# Altium footprint library Футпринты.PcbLib: 27 footprints (part 2 of 2)
Each footprint in its own frame and in the unit in brackets; x right, y up, seen from the top. Pads: shape width x height; smd on the part's side, far side on the other; paste and mask are expansions set on the pad; w line width, h text height; cw(c..) or ccw(c..) is an arc to the next point about the centre after c.
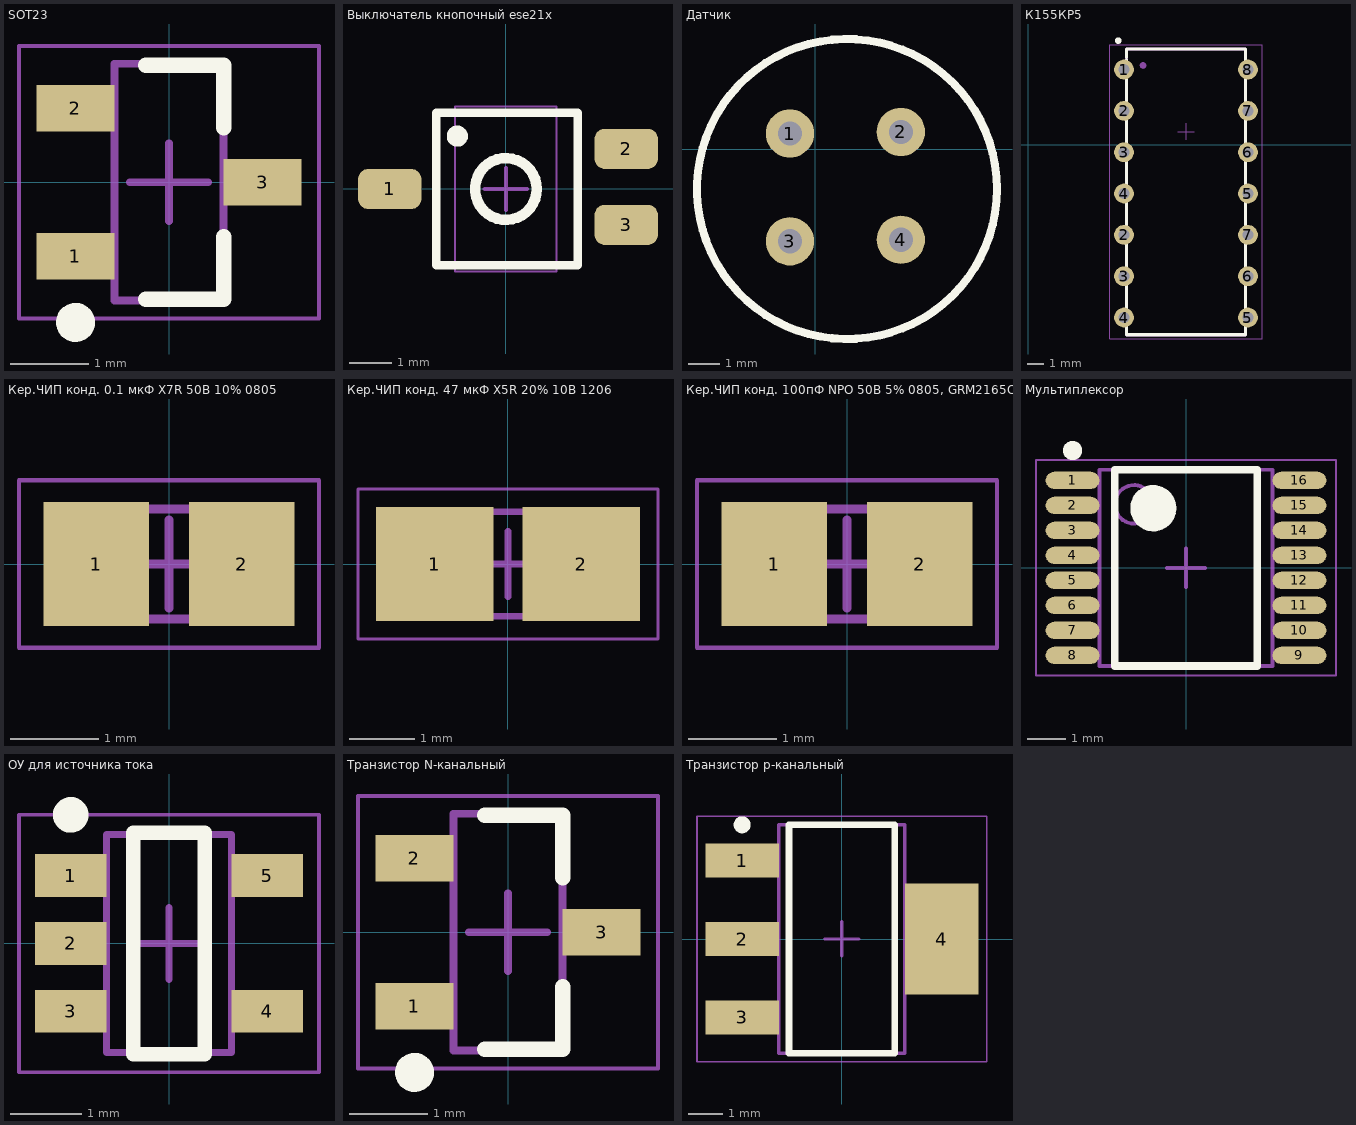
[diagram p1: the footprints below, top view; thin cyan lines are the x and y axes]

## SOT23 [mm] "SOT23, 3-Leads, Body 2,92x2,45mm, Pitch 0,95mm, IPC Medium Density"
height 1.12
pads (3):
  rect 1x0.6 smd: 1(-1.2,-0.95) 2(-1.2,0.95) 3(1.2,0)
Top Overlay:
  circle w0.25: c-1.2,-1.8 r0.125
  lines w0.2: -0.3,-1.5 0.7,-1.5 0.7,-0.7 ; -0.3,1.5 0.7,1.5 0.7,0.7
Mechanical 13:
  lines w0.1: -0.7,-1.52 0.7,-1.52 0.7,1.52 -0.7,1.52 -0.7,-1.52
Mechanical 15:
  lines w0.05: -1.925,-1.75 1.925,-1.75 1.925,1.75 -1.925,1.75 -1.925,-1.75
  lines w0.1: -0.5,0 0.5,0 ; 0,-0.5 0,0.5
3D body "SOT95P245X112-3N.step": height 1.12, standoff 0, extent -1.3,-1.52 1.3,1.52

## Выключатель кнопочный ese21x [mm] "SOTFL, 3-Leads, Body 3,62x1,60mm, Pitch 1,50mm, IPC Medium Density"
height 0.73
pads (3):
  rrect50% 1.5x0.95 smd: 1(-2.75,0) 2(2.85,0.95) 3(2.85,-0.85)
Top Overlay:
  circle w0.25: c-1.15,1.25 r0.125
  circle w0.25: c0,0 r0.73
  lines w0.2: 1.7,1.75 1.7,-1.8 -1.65,-1.8 -1.65,1.8 1.7,1.8
Mechanical 15:
  lines w0.05: -1.2,-1.95 -1.2,1.95 1.2,1.95 1.2,-1.95 -1.2,-1.95
  lines w0.1: -0.5,0 0.5,0 ; 0,-0.5 0,0.5

## Датчик [mil]
pads (4):
  round 60 hole 30: 1(-31.5,19.68) 2(106.3,21.65) 3(-31.5,-114.17) 4(106.3,-112.2)
Top Overlay:
  circle w10: c39.37,-49.21 r186.3

## К155КР5 [mm]
height 4.36
pads (14):
  round 1.2 hole 0.65: 1(5.8,4.55) 2(5.8,-5.45) 2(5.8,2.05) 3(5.8,-7.95) 3(5.8,-0.45) 4(5.8,-10.45) 4(5.8,-2.95) 5(13.3,-10.45) 5(13.3,-2.95) 6(13.3,-7.95) 6(13.3,-0.45) 7(13.3,-5.45) 7(13.3,2.05) 8(13.3,4.55)
Top Overlay:
  circle w0.2: c5.45,6.3 r0.1
  lines w0.2: 5.95,5.15 5.95,-11.5 13.15,-11.5 13.15,5.3 13.15,5.8 5.95,5.8 5.95,5.3
Mechanical 14:
  circle w0.2: c6.95,4.8 r0.1
  lines w0.2: 5.95,-11.5 13.15,-11.5 13.15,5.8 5.95,5.8 5.95,-11.5
Mechanical 15:
  lines w0.05: 9.05,0.8 10.05,0.8 ; 9.55,0.3 9.55,1.3 ; 4.95,-11.75 14.15,-11.75 14.15,6.05 4.95,6.05 4.95,-11.75
3D body "dip-14.step": height 3.4, standoff -2, extent 5.74,-12.65 13.66,6.65

## Кер.ЧИП конд. 0.1 мкФ X7R 50В 10% 0805 [mm]
height 1.3
pads (2):
  rect 1.2x1.4 smd: 1(-0.825,0) 2(0.825,0)
Mechanical 13:
  lines w0.1: -1,-0.625 1,-0.625 1,0.625 -1,0.625 -1,-0.625
Mechanical 15:
  lines w0.05: -1.7,-0.95 1.7,-0.95 1.7,0.95 -1.7,0.95 -1.7,-0.95
  lines w0.1: -0.5,0 0.5,0 ; 0,-0.5 0,0.5
3D body "Chip2PinSM127P600-8N.step": height 1.3, standoff 0, extent -1,-0.625 1,0.625

## Кер.ЧИП конд. 47 мкФ X5R 20% 10В 1206 [mm] "Кер.ЧИП конд. 47 мкФ X5R 20% 10В 1206"
height 1.5
pads (2):
  rect 1.8x1.75 smd: 1(-1.125,0) 2(1.125,0)
Mechanical 13:
  lines w0.1: -1.6,-0.8 -1.6,0.8 1.6,0.8 1.6,-0.8 -1.6,-0.8
Mechanical 15:
  lines w0.05: -2.3,-1.15 -2.3,1.15 2.3,1.15 2.3,-1.15 -2.3,-1.15
  lines w0.1: -0.5,0 0.5,0 ; 0,-0.5 0,0.5
3D body "Chip2PinSM127P600-8N.step": height 1.5, standoff 0, extent -1.6,-0.8 1.6,0.8

## Кер.ЧИП конд. 100пФ NPO 50В 5% 0805, GRM2165C1H101J [mm]
height 1.3
pads (2):
  rect 1.2x1.4 smd: 1(-0.825,0) 2(0.825,0)
Mechanical 13:
  lines w0.1: -1,-0.625 1,-0.625 1,0.625 -1,0.625 -1,-0.625
Mechanical 15:
  lines w0.05: -1.7,-0.95 1.7,-0.95 1.7,0.95 -1.7,0.95 -1.7,-0.95
  lines w0.1: -0.5,0 0.5,0 ; 0,-0.5 0,0.5
3D body "Chip2PinSM127P600-8N.step": height 1.3, standoff 0, extent -1,-0.625 1,0.625

## Мультиплексор [mm] "TSOP, 16-Leads, Body 5,00x4,40mm, Pitch 0,65mm, IPC Medium Density"
height 0.95
pads (16):
  oval 1.4x0.45 smd: 1(-2.95,2.275) 2(-2.95,1.625) 3(-2.95,0.975) 4(-2.95,0.325) 5(-2.95,-0.325) 6(-2.95,-0.975) 7(-2.95,-1.625) 8(-2.95,-2.275) 9(2.95,-2.275) 10(2.95,-1.625) 11(2.95,-0.975) 12(2.95,-0.325) 13(2.95,0.325) 14(2.95,0.975) 15(2.95,1.625) 16(2.95,2.275)
Top Overlay:
  circle w0.6: c-0.85,1.55 r0.3
  circle w0.25: c-2.95,3.05 r0.125
  lines w0.2: -1.85,-2.55 1.85,-2.55 1.85,2.55 -1.85,2.55 -1.85,-2.55
Mechanical 13:
  circle w0.1: c-1.35,1.65 r0.5
  lines w0.1: -2.25,-2.55 2.25,-2.55 2.25,2.55 -2.25,2.55 -2.25,-2.55
Mechanical 15:
  lines w0.05: -3.9,-2.8 3.9,-2.8 3.9,2.8 -3.9,2.8 -3.9,-2.8
  lines w0.1: -0.5,0 0.5,0 ; 0,-0.5 0,0.5
3D body "TSOP65P640X95-16N.step": height 0.95, standoff 0, extent -3.2,-2.55 3.2,2.55

## ОУ для источника тока [mm] "SOT23, 5-Leads, Body 2,90x2,80mm, Pitch 0,95mm, IPC Medium Density"
height 1.45
pads (5):
  rect 1x0.6 smd: 1(-1.375,0.95) 2(-1.375,0) 3(-1.375,-0.95) 4(1.375,-0.95) 5(1.375,0.95)
Top Overlay:
  circle w0.25: c-1.375,1.8 r0.125
  lines w0.2: -0.5,-1.55 -0.5,1.55 0.5,1.55 0.5,-1.55 -0.5,-1.55
Mechanical 13:
  lines w0.1: -0.875,-1.525 0.875,-1.525 0.875,1.525 -0.875,1.525 -0.875,-1.525
Mechanical 15:
  lines w0.05: -2.1,-1.8 2.1,-1.8 2.1,1.8 -2.1,1.8 -2.1,-1.8
  lines w0.1: -0.5,0 0.5,0 ; 0,-0.5 0,0.5
3D body "SOT95P280X145-5N.step": height 1.45, standoff 0, extent -1.5,-1.525 1.5,1.525

## Транзистор N-канальный [mm] "SOT23, 3-Leads, Body 2,92x2,45mm, Pitch 0,95mm, IPC Medium Density"
height 1.12
pads (3):
  rect 1x0.6 smd: 1(-1.2,-0.95) 2(-1.2,0.95) 3(1.2,0)
Top Overlay:
  circle w0.25: c-1.2,-1.8 r0.125
  lines w0.2: -0.3,-1.5 0.7,-1.5 0.7,-0.7 ; -0.3,1.5 0.7,1.5 0.7,0.7
Mechanical 13:
  lines w0.1: -0.7,-1.52 -0.7,1.52 0.7,1.52 0.7,-1.52 -0.7,-1.52
Mechanical 15:
  lines w0.05: -1.925,-1.75 -1.925,1.75 1.925,1.75 1.925,-1.75 -1.925,-1.75
  lines w0.1: -0.5,0 0.5,0 ; 0,-0.5 0,0.5
3D body "SOT95P245X112-3N.step": height 1.12, standoff 0, extent -1.3,-1.52 1.3,1.52

## Транзистор р-канальный [mm] "SOT223, 4-Leads, Body 6,50x7,00mm (avg), Pitch 2,30mm, IPC Medium Density"
height 1.75
pads (4):
  rect 2.15x1 smd: 1(-2.925,2.3) 2(-2.925,0) 3(-2.925,-2.3)
  rect 2.15x3.25 smd: 4(2.925,0)
Top Overlay:
  circle w0.25: c-2.925,3.35 r0.125
  lines w0.2: -1.55,-3.35 -1.55,3.35 1.55,3.35 1.55,-3.35 -1.55,-3.35
Mechanical 13:
  lines w0.1: -1.85,-3.35 -1.85,3.35 1.85,3.35 1.85,-3.35 -1.85,-3.35
Mechanical 15:
  lines w0.05: -4.25,-3.6 -4.25,3.6 4.25,3.6 4.25,-3.6 -4.25,-3.6
  lines w0.1: -0.5,0 0.5,0 ; 0,-0.5 0,0.5
3D body "SOT230P700X175-4N.step": height 1.75, standoff 0, extent -3.5,-3.35 3.5,3.35